# Altium schematic symbol library CV-R-BAP_V2.1.5.SCHLIB: 73 symbols
Pins are listed as number, name and electrical type; pins without a type are passive.

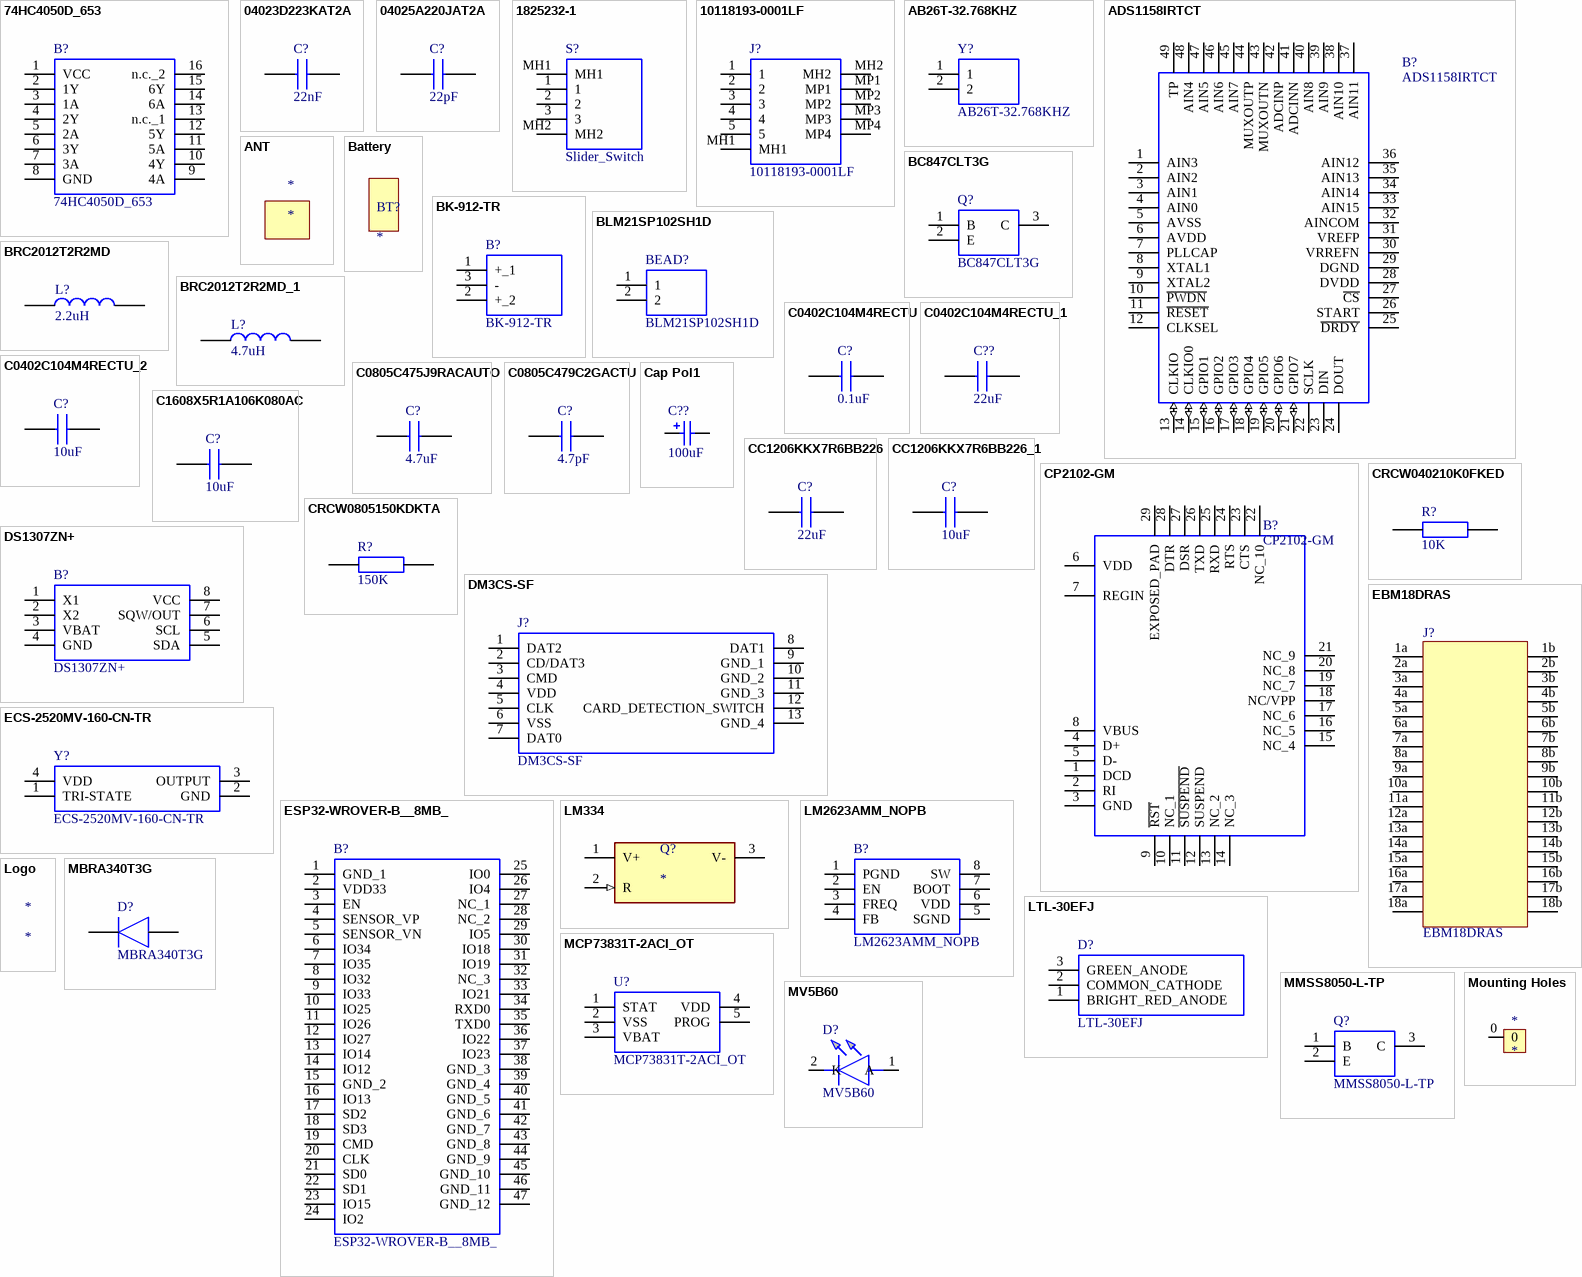
[diagram p0: symbols 74HC4050D_653 to MV5B60]

## 74HC4050D_653
designator B?
74HC4050 - Hex non-inverting HIGH-to-LOW level shifter@en-us; Manufacturer_Name: Nexperia; Manufacturer_Part_Number: 74HC4050D,653; Geometry.Height: 1.75mm; Arrow Part Number: 74HC4050D,653; Arrow Price/Stock: https://www.arrow.com/en/products/74hc4050d653/nexperia; Mouser Part Number: 771-74HC4050D-T; Mouser Price/Stock: https://www.mouser.co.uk/ProductDetail/Nexperia/74HC4050D653?qs=P62ublwmbi%2FIblpTHxAIPw%3D%3D; Datasheet Link: https://assets.nexperia.com/documents/data-sheet/74HC4050.pdf
footprint SOIC127P600X175-16N
pins: 1 VCC, 2 1Y, 3 1A, 4 2Y, 5 2A, 6 3Y, 7 3A, 8 GND, 9 4A, 10 4Y, 11 5A, 12 5Y, 13 n.c._1, 14 6A, 15 6Y, 16 n.c._2

## 04023D223KAT2A
designator C?, comment 22nF
Manufacturer_Name: AVX; Manufacturer_Part_Number: 04023D223KAT2A; Geometry.Height: 0.56mm; Arrow Part Number: 04023D223KAT2A; Arrow Price/Stock: https://www.arrow.com/en/products/04023d223kat2a/avx; Mouser Part Number: 581-04023D223KAT2A; Mouser Price/Stock: https://www.mouser.co.uk/ProductDetail/AVX/04023D223KAT2A?qs=ZwvTZoB9SO9ICL%2FCeGOSag%3D%3D; Datasheet Link: http://www.mouser.com/catalog/supplier/library/pdf/AVXSurfaceMountCeramic.pdf
footprint CAPC1005X56N
pins: 1, 2

## 04025A220JAT2A
designator C?, comment 22pF
Capacitor MLCC 0402 22pF 50V AVX 0402 Standard 22pF Ceramic Multilayer Capacitor, 50 V dc C0G Dielectric +/-5% SMD; Manufacturer_Part_Number: 04025A220JAT2A; Geometry.Height: 0.56mm; Manufacturer_Name: AVX; Arrow Part Number: 04025A220JAT2A; Arrow Price/Stock: https://www.arrow.com/en/products/04025a220jat2a/avx; Mouser Part Number: 581-04025A220J; Mouser Price/Stock: https://www.mouser.com/Search/Refine.aspx?Keyword=581-04025A220J; Datasheet Link: http://www.mouser.com/catalog/supplier/library/pdf/AVXSurfaceMountCeramic.pdf
footprint CAPC1005X56N
pins: 1, 2

## 1825232-1
designator S?, comment Slider_Switch
TE CONNECTIVITY - 1825232-1 - SLIDE SWITCH, SPDT, 0.2A, 30VDC, SOLDER; Geometry.Height: 3.7mm; Manufacturer_Name: TE Connectivity; Manufacturer_Part_Number: 1825232-1; Arrow Part Number: 1825232-1; Arrow Price/Stock: https://www.arrow.com/en/products/1825232-1/te-connectivity; Mouser Part Number: 655-1825232-1; Mouser Price/Stock: https://www.mouser.co.uk/ProductDetail/TE-Connectivity-PB/1825232-1?qs=kTKVN3NWb5FosGxaNC1%252BtA%3D%3D; Datasheet Link: https://componentsearchengine.com/Datasheets/1/1825232-1.pdf
footprint 18252321
pins: 1, 2, 3, MH1, MH2

## 10118193-0001LF
designator J?
USB Connectors 5P MICRO USB TYPE B RECEPTACLE W/ PEGS; Manufacturer_Name: Amphenol; Geometry.Height: 3.1mm; Manufacturer_Part_Number: 10118193-0001LF; Arrow Part Number: 10118193-0001LF; Arrow Price/Stock: https://www.arrow.com/en/products/10118193-0001lf/amphenol-fci; Mouser Part Number: 649-10118193-0001LF; Mouser Price/Stock: https://www.mouser.co.uk/ProductDetail/Amphenol-FCI/10118193-0001LF?qs=Ywefl8B65e63Nsqd%252B8HZaQ%3D%3D; Datasheet Link: https://componentsearchengine.com/Datasheets/1/10118193-0001LF.pdf
footprint 101181930001LF
pins: 1, 2, 3, 4, 5, MH1, MH2, MP1, MP2, MP3, MP4

## AB26T-32.768KHZ
designator Y?
Crystal 32.768kHz, +/-20ppm Cylindrical Can, Radial, 2.1 x 6.2mm; Manufacturer_Name: ABRACON; Manufacturer_Part_Number: AB26T-32.768KHZ; Arrow Part Number: AB26T-32.768KHZ; Arrow Price/Stock: https://www.arrow.com/en/products/ab26t-32.768khz/abracon; Mouser Part Number: 815-AB26T-32.768KHZ; Mouser Price/Stock: https://www.mouser.co.uk/ProductDetail/ABRACON/AB26T-32768KHZ?qs=m%252BUhWDcpCfZq%2FBFfwzExYQ%3D%3D; Datasheet Link: https://abracon.com/Resonators/AB26T.pdf
footprint AB26T
pins: 1, 2

## ADS1158IRTCT
designator B?
16-Bit, 125kSPS, 16-Ch Delta-Sigma ADC w/ Fast Channel Scan & Automatic Sequencer; Manufacturer_Name: Texas Instruments; Geometry.Height: 0.9mm; Manufacturer_Part_Number: ADS1158IRTCT; Arrow Part Number: ADS1158IRTCT; Arrow Price/Stock: https://www.arrow.com/en/products/ads1158irtct/texas-instruments; Mouser Part Number: 595-ADS1158IRTCT; Mouser Price/Stock: https://www.mouser.co.uk/ProductDetail/Texas-Instruments/ADS1158IRTCT?qs=Fn3VdHBzkcmocHRSn4DsYg%3D%3D; Datasheet Link: http://www.mouser.com/ds/2/405/ads1158-404657.pdf
footprint QFN50P700X700X90-49N-D
pins: 1 AIN3, 2 AIN2, 3 AIN1, 4 AIN0, 5 AVSS, 6 AVDD (power), 7 PLLCAP, 8 XTAL1, 9 XTAL2, 10 ~{PWDN}, 11 ~{RESET}, 12 CLKSEL, 13 CLKIO (io), 14 CLKIO0 (io), 15 GPIO1 (io), 16 GPIO2 (io), 17 GPIO3 (io), 18 GPIO4 (io), 19 GPIO5 (io), 20 GPIO6 (io), 21 GPIO7 (io), 22 SCLK, 23 DIN, 24 DOUT, 25 ~{DRDY}, 26 START, 27 ~{CS}, 28 DVDD (power), 29 DGND, 30 VRREFN, 31 VREFP, 32 AINCOM, 33 AIN15, 34 AIN14, 35 AIN13, 36 AIN12, 37 AIN11, 38 AIN10, 39 AIN9, 40 AIN8, 41 ADCINN, 42 ADCINP, 43 MUXOUTN, 44 MUXOUTP, 45 AIN7, 46 AIN6, 47 AIN5, 48 AIN4, 49 TP

## ANT
designator *

## Battery
designator BT?

## BC847CLT3G
designator Q?
Manufacturer_Name: ON Semiconductor; Geometry.Height: 1.11mm; Manufacturer_Part_Number: BC847CLT3G; Arrow Part Number: BC847CLT3G; Arrow Price/Stock: https://www.arrow.com/en/products/bc847clt3g/on-semiconductor; Mouser Part Number: 863-BC847CLT3G; Mouser Price/Stock: https://www.mouser.co.uk/ProductDetail/ON-Semiconductor/BC847CLT3G?qs=vNc2DXHODiIVMr372epecQ%3D%3D; Datasheet Link: http://www.onsemi.com/pub/Collateral/BC846ALT1-D.PDF
footprint SOT96P237X111-3N
pins: 1 B, 2 E, 3 C

## BK-912-TR
designator B?
BATTERY RETAINER COIN 20MM SMD; Manufacturer_Name: MPD (Memory Protection Devices); Geometry.Height: 4.32mm; Manufacturer_Part_Number: BK-912-TR; Arrow Part Number: BK-912-TR; Arrow Price/Stock: *; Mouser Part Number: *; Mouser Price/Stock: *; Datasheet Link: https://www.memoryprotectiondevices.com/datasheets/BK-912-datasheet.pdf
footprint BK912TR
pins: 1 +_1, 2 +_2, 3 -

## BLM21SP102SH1D
designator BEAD?
BLM21_H1D Series EMI Suppression Filter 1000+/-25% at 100MHz 1.6A @85; Manufacturer_Name: Murata Electronics; Geometry.Height: 1.05mm; Manufacturer_Part_Number: BLM21SP102SH1D; Arrow Part Number: BLM21SP102SH1D; Arrow Price/Stock: https://www.arrow.com/en/products/blm21sp102sh1d/murata-manufacturing; Mouser Part Number: 81-BLM21SP102SH1D; Mouser Price/Stock: https://www.mouser.co.uk/ProductDetail/Murata-Electronics/BLM21SP102SH1D?qs=17u8i%2FzlE88gxwLak368hw%3D%3D; Datasheet Link: https://www.murata.com/en-us/products/productdetail?partno=BLM21SP102SH1%23
footprint Model Name (Footprint not found)
footprint Bead_0805
pins: 1, 2

## BRC2012T2R2MD
designator L?, comment 2.2uH
BRC2012T2R2MD; Manufacturer_Name: TAIYO YUDEN; Geometry.Height: 1.4mm; Manufacturer_Part_Number: BRC2012T2R2MD; Arrow Part Number: BRC2012T2R2MD; Arrow Price/Stock: http://www.arrow.com/en/products/brc2012t2r2md/taiyo-yuden; Mouser Part Number: 963-BRC2012T2R2MD; Mouser Price/Stock: https://www.mouser.co.uk/ProductDetail/Taiyo-Yuden/BRC2012T2R2MD?qs=I6KAKw0tg2xahQxcAJDRXw%3D%3D; Datasheet Link: https://www.mouser.com/datasheet/2/396/wound07_e-1628381.pdf
footprint INDC2012X140N
pins: 1, 2

## BRC2012T2R2MD_1
designator L?, comment 4.7uH
BRC2012T2R2MD; Manufacturer_Name: TAIYO YUDEN; Geometry.Height: 1.4mm; Manufacturer_Part_Number: BRC2012T2R2MD; Arrow Part Number: BRC2012T2R2MD; Arrow Price/Stock: http://www.arrow.com/en/products/brc2012t2r2md/taiyo-yuden; Mouser Part Number: 963-BRC2012T2R2MD; Mouser Price/Stock: https://www.mouser.co.uk/ProductDetail/Taiyo-Yuden/BRC2012T2R2MD?qs=I6KAKw0tg2xahQxcAJDRXw%3D%3D; Datasheet Link: https://www.mouser.com/datasheet/2/396/wound07_e-1628381.pdf
footprint INDC2012X140N
pins: 1, 2

## C0402C104M4RECTU
designator C?, comment 0.1uF
Multilayer Ceramic Capacitors MLCC - SMD/SMT 16V 0.1uF X7R 0402 20%; Manufacturer_Name: Kemet; Manufacturer_Part_Number: C0402C104M4RECTU; Geometry.Height: 0.55mm; Arrow Part Number: C0402C104M4RECTU; Arrow Price/Stock: *; Mouser Part Number: 80-C0402C104M4RECTU; Mouser Price/Stock: https://www.mouser.com/Search/Refine.aspx?Keyword=80-C0402C104M4RECTU; Datasheet Link: https://content.kemet.com/datasheets/KEM_C1002_X7R_SMD.pdf
footprint CAPC1005X55N
pins: 1, 2

## C0402C104M4RECTU_1
designator C??, comment 22uF
Multilayer Ceramic Capacitors MLCC - SMD/SMT 25V 22uF X7R 0402 20%; Manufacturer_Name: Kemet; Manufacturer_Part_Number: C0402C104M4RECTU; Geometry.Height: 0.55mm; Arrow Part Number: C0402C104M4RECTU; Arrow Price/Stock: *; Mouser Part Number: 80-C0402C104M4RECTU; Mouser Price/Stock: https://www.mouser.com/Search/Refine.aspx?Keyword=80-C0402C104M4RECTU; Datasheet Link: https://content.kemet.com/datasheets/KEM_C1002_X7R_SMD.pdf
footprint CAPC1005X55N
pins: 1, 2

## C0402C104M4RECTU_2
designator C?, comment 10uF
Multilayer Ceramic Capacitors MLCC - SMD/SMT 16V 0.1uF X7R 0402 20%; Manufacturer_Name: Kemet; Manufacturer_Part_Number: C0402C104M4RECTU; Geometry.Height: 0.55mm; Arrow Part Number: C0402C104M4RECTU; Arrow Price/Stock: *; Mouser Part Number: 80-C0402C104M4RECTU; Mouser Price/Stock: https://www.mouser.com/Search/Refine.aspx?Keyword=80-C0402C104M4RECTU; Datasheet Link: https://content.kemet.com/datasheets/KEM_C1002_X7R_SMD.pdf
footprint CAPC1005X55N
pins: 1, 2

## C0805C475J9RACAUTO
designator C?, comment 4.7uF
KEMET 0805 (2012M) 4.7uF MLCC 6.3V dc +/-5% SMD C0805C475J9RACAUTO; Geometry.Height: 1.4mm; Manufacturer_Name: Kemet; Manufacturer_Part_Number: C0805C475J9RACAUTO; Arrow Part Number: C0805C475J9RACAUTO; Arrow Price/Stock: https://www.arrow.com/en/products/c0805c475j9racauto/kemet-corporation; Mouser Part Number: 80-C0805C475J9RAUTO; Mouser Price/Stock: https://www.mouser.com/Search/Refine.aspx?Keyword=80-C0805C475J9RAUTO; Datasheet Link: https://api.kemet.com/component-edge/download/datasheet/C0805C475J9RACAUTO.pdf
footprint CAPC2012X140N
pins: 1, 2

## C0805C479C2GACTU
designator C?, comment 4.7pF
Kemet 0805 C 4.7pF Ceramic Multilayer Capacitor, 200 V dc, +125C, C0G Dielectric, +/-0.25pF; Manufacturer_Part_Number: C0805C479C2GACTU; Geometry.Height: 0.88mm; Manufacturer_Name: Kemet; Arrow Part Number: C0805C479C2GACTU; Arrow Price/Stock: *; Mouser Part Number: 80-C0805C479C2G; Mouser Price/Stock: https://www.mouser.co.uk/ProductDetail/KEMET/C0805C479C2GACTU?qs=Kt%252B%2Fw7aCTnl%2FOadhisFOJw%3D%3D; Datasheet Link: https://search.kemet.com/component-edge/download/specsheet/C0805C479C2GACTU.pdf
footprint CAPC2012X88N
pins: 1, 2

## C1608X5R1A106K080AC
designator C?, comment 10uF
TDK - C1608X5R1A106K080AC - CAP, MLCC, X5R, 10UF, 10V, 0603; Geometry.Height: 0.8mm; Manufacturer_Name: TDK; Manufacturer_Part_Number: C1608X5R1A106K080AC; Arrow Part Number: C1608X5R1A106K080AC; Arrow Price/Stock: https://www.arrow.com/en/products/c1608x5r1a106k080ac/tdk; Mouser Part Number: 810-C1608X5R1A106K; Mouser Price/Stock: https://www.mouser.co.uk/ProductDetail/TDK/C1608X5R1A106K080AC?qs=NRhsANhppD%252B2Bx3rv7OLbA%3D%3D; Datasheet Link: https://product.tdk.com/info/en/catalog/datasheets/mlcc_commercial_midvoltage_en.pdf
footprint CAPC1608X80N
pins: 1, 2

## Cap Pol1
designator C??  value 100uF  (hidden comment: Cap Pol1)
Polarized Capacitor (Radial); Published: 8-Jun-2000; LatestRevisionDate: 17-Jul-2002; LatestRevisionNote: Re-released for DXP Platform.; PackageReference: RB7.6-15; Publisher: Altium Limited; PackageDescription: Polarized Capacitor (Radial); 2 Leads
footprint RB7.6-15 (Polarized Capacitor (Radial); 2 Leads)
simulation model CAP (Capacitor)
signal-integrity model Cap Pol
pins: 1, 2
1 alternate drawing of the same symbol

## CC1206KKX7R6BB226
designator C?, comment 22uF
Multilayer Ceramic Capacitors MLCC - SMD/SMT 22uF 10% 10V; Manufacturer_Name: YAGEO (PHYCOMP); Manufacturer_Part_Number: CC1206KKX7R6BB226; Geometry.Height: 1.8mm; Arrow Part Number: CC1206KKX7R6BB226; Arrow Price/Stock: *; Mouser Part Number: 603-CC206KKX7R6BB226; Mouser Price/Stock: https://www.mouser.com/Search/Refine.aspx?Keyword=603-CC206KKX7R6BB226; Datasheet Link: https://www.mouser.com/datasheet/2/447/UPY-GPHC_X7R_6.3V-to-50V_18-1154002.pdf
footprint CAPC3216X180N
pins: 1, 2

## CC1206KKX7R6BB226_1
designator C?, comment 10uF
Multilayer Ceramic Capacitors MLCC - SMD/SMT 22uF 10% 10V; Manufacturer_Name: YAGEO (PHYCOMP); Manufacturer_Part_Number: CC1206KKX7R6BB226; Geometry.Height: 1.8mm; Arrow Part Number: CC1206KKX7R6BB226; Arrow Price/Stock: *; Mouser Part Number: 603-CC206KKX7R6BB226; Mouser Price/Stock: https://www.mouser.com/Search/Refine.aspx?Keyword=603-CC206KKX7R6BB226; Datasheet Link: https://www.mouser.com/datasheet/2/447/UPY-GPHC_X7R_6.3V-to-50V_18-1154002.pdf
footprint CAPC3216X180N
pins: 1, 2

## CP2102-GM
designator B?
CP2102-GM, USB Controller 12Mbit/s USB 2.0, 3.3 V, 28-Pin, QFN; Manufacturer_Name: Silicon Labs; Geometry.Height: 1mm; Manufacturer_Part_Number: CP2102-GM; Arrow Part Number: CP2102-GM; Arrow Price/Stock: https://www.arrow.com/en/products/cp2102-gm/silicon-labs; Mouser Part Number: 634-CP2102-GM; Mouser Price/Stock: https://www.mouser.co.uk/ProductDetail/Silicon-Labs/CP2102-GM?qs=yHCtFi5ROqJvCcyR88R4Pg%3D%3D; Datasheet Link: http://docs-emea.rs-online.com/webdocs/065a/0900766b8065a805.pdf
footprint QFN50P500X500X100-29N-D
pins: 1 DCD, 2 RI, 3 GND, 4 D+, 5 D-, 6 VDD (power), 7 REGIN, 8 VBUS, 9 ~{RST}, 10 NC_1, 11 ~{SUSPEND}, 12 SUSPEND, 13 NC_2, 14 NC_3, 15 NC_4, 16 NC_5, 17 NC_6, 18 NC/VPP, 19 NC_7, 20 NC_8, 21 NC_9, 22 NC_10, 23 CTS, 24 RTS, 25 RXD, 26 TXD, 27 DSR, 28 DTR, 29 EXPOSED_PAD

## CRCW040210K0FKED
designator R?, comment 10K
CRCW0402 Resistor T/R 0.063W,1%,10K Vishay CRCW Series Thick Film Surface Mount Resistor 0402 Case 10k +/-1% 0.063W +/-100ppm/C; Manufacturer_Part_Number: CRCW040210K0FKED; Geometry.Height: 0.4mm; Manufacturer_Name: Vishay; Arrow Part Number: CRCW040210K0FKED; Arrow Price/Stock: https://www.arrow.com/en/products/crcw040210k0fked/vishay; Mouser Part Number: 71-CRCW0402-10K-E3; Mouser Price/Stock: https://www.mouser.co.uk/ProductDetail/Vishay-Dale/CRCW040210K0FKED?qs=rlE3Te1NifyN3e8vvxacSw%3D%3D; Datasheet Link: http://www.vishay.com/docs/20035/dcrcwe3.pdf
footprint RESC1005X40N
pins: 1, 2

## CRCW0805150KDKTA
designator R?, comment 150K
Thick Film Resistors - SMD 1/8watt 150Kohms .5%; Manufacturer_Name: Vishay; Manufacturer_Part_Number: CRCW0805150KDKTA; Geometry.Height: 0.5mm; Arrow Part Number: CRCW0805150KDKTA; Arrow Price/Stock: *; Mouser Part Number: 71-CRCW08051503DT; Mouser Price/Stock: *; Datasheet Link: http://www.vishay.com/docs/20035/dcrcwe3.pdf
footprint RESC2012X50N
pins: 1, 2

## DM3CS-SF
designator J?
MicroSD card connector, push-pull type MicroSD card connector, push-pull type; Manufacturer_Name: Hirose; Manufacturer_Part_Number: DM3CS-SF; Arrow Part Number: DM3CS-SF; Arrow Price/Stock: https://www.arrow.com/en/products/dm3cs-sf/hirose-electric; Mouser Part Number: 798-DM3CSSF; Mouser Price/Stock: https://www.mouser.co.uk/ProductDetail/Hirose-Connector/DM3CS-SF?qs=tTj%252BmQ3KZwbB9K5zh89Rcw%3D%3D; Datasheet Link: http://docs-emea.rs-online.com/webdocs/118f/0900766b8118f8bb.pdf
footprint DM3CS-SF
pins: 1 DAT2, 2 CD/DAT3, 3 CMD, 4 VDD, 5 CLK, 6 VSS, 7 DAT0, 8 DAT1, 9 GND_1, 10 GND_2, 11 GND_3, 12 CARD_DETECTION_SWITCH, 13 GND_4

## DS1307ZN+
designator B?
DS1307ZN+, Real Time Clock, Calendar, Clock, 56B RAM, I2C, 8-Pin SOIC; Manufacturer_Name: Maxim Integrated; Geometry.Height: 1.75mm; Manufacturer_Part_Number: DS1307ZN+; Arrow Part Number: DS1307ZN+; Arrow Price/Stock: *; Mouser Part Number: 700-DS1307ZN; Mouser Price/Stock: https://www.mouser.co.uk/ProductDetail/Maxim-Integrated/DS1307ZN%2b?qs=0Y9aZN%252BMVCXLWsJnSCEZfw%3D%3D; Datasheet Link: https://datasheets.maximintegrated.com/en/ds/DS1307.pdf
footprint SOIC127P600X175-8N
pins: 1 X1, 2 X2, 3 VBAT, 4 GND, 5 SDA, 6 SCL, 7 SQW/OUT, 8 VCC (power)

## EBM18DRAS
designator J?
CONN EDGE DUAL FMALE 18POS 0.051mm dia
footprint EBM18DRAS (CONN EDGE DUAL FMALE 18POS 0.051mm dia)
pins: 1a, 1b, 2a, 2b, 3a, 3b, 4a, 4b, 5a 8, 5b, 6a, 6b, 7a, 7b, 8a 14, 8b, 9a, 9b, 10a, 10b, 11a 20, 11b, 12a, 12b, 13a, 13b, 14a, 14b, 15a, 15b, 16a, 16b, 17a, 17b, 18a, 18b

## ECS-2520MV-160-CN-TR
designator Y?
Standard Clock Oscillators 16MHz 1.6-3.6 V 25ppm -40C +85C; Manufacturer_Name: ECS; Manufacturer_Part_Number: ECS-2520MV-160-CN-TR; Arrow Part Number: ECS-2520MV-160-CN-TR; Arrow Price/Stock: *; Mouser Part Number: 520-2520MV-160-CNT; Mouser Price/Stock: https://www.mouser.co.uk/ProductDetail/ECS/ECS-2520MV-160-CN-TR?qs=byeeYqUIh0MIhToPrW09tg%3D%3D; Datasheet Link: https://www.ecsxtal.com/store/pdf/ECS-2520MV.pdf
footprint ECS2520MV250BNTR
pins: 1 TRI-STATE, 2 GND, 3 OUTPUT, 4 VDD

## ESP32-WROVER-B__8MB_
designator B?
WiFi Modules (802.11) SMD Module M213DH6464PH3Q0, ESP32-D0WD, 64Mbits PSRAM, 8MB SPI flash, PCB Antenna; Manufacturer_Name: Espressif; Manufacturer_Part_Number: ESP32-WROVER-B (8MB); Geometry.Height: 3.4mm; Arrow Part Number: ESP32-WROVER-B (8MB); Arrow Price/Stock: *; Mouser Part Number: 356-ESP32-WRO-B(8MB); Mouser Price/Stock: *; Datasheet Link: https://eu.mouser.com/datasheet/2/891/esp32-wrover-b_datasheet_en-1384674.pdf
footprint ESP32WROVERB8MB
pins: 1 GND_1, 2 VDD33, 3 EN, 4 SENSOR_VP, 5 SENSOR_VN, 6 IO34, 7 IO35, 8 IO32, 9 IO33, 10 IO25, 11 IO26, 12 IO27, 13 IO14, 14 IO12, 15 GND_2, 16 IO13, 17 SD2, 18 SD3, 19 CMD, 20 CLK, 21 SD0, 22 SD1, 23 IO15, 24 IO2, 25 IO0, 26 IO4, 27 NC_1, 28 NC_2, 29 IO5, 30 IO18, 31 IO19, 32 NC_3, 33 IO21, 34 RXD0, 35 TXD0, 36 IO22, 37 IO23, 38 GND_3, 39 GND_4, 40 GND_5, 41 GND_6, 42 GND_7, 43 GND_8, 44 GND_9, 45 GND_10, 46 GND_11, 47 GND_12

## LM334
designator Q?
Part Number: LM334; Footprint Doc: TO-92
footprint LM334_TO-92
pins: 1 V+ (power), 2 R (in), 3 V-

## LM2623AMM_NOPB
designator B?
General Purpose, Gated Oscillator Based, DC/DC Boost Converter; Manufacturer_Name: Texas Instruments; Manufacturer_Part_Number: LM2623AMM/NOPB; Geometry.Height: 1.1mm; Arrow Part Number: LM2623AMM/NOPB; Arrow Price/Stock: https://www.arrow.com/en/products/lm2623ammnopb/texas-instruments; Mouser Part Number: 926-LM2623AMM/NOPB; Mouser Price/Stock: https://www.mouser.co.uk/ProductDetail/Texas-Instruments/LM2623AMM-NOPB?qs=X1J7HmVL2ZHUXFRmS%252BHhFg%3D%3D; Datasheet Link: http://www.ti.com/lit/ds/symlink/lm2623.pdf
footprint SOP65P490X110-8N
pins: 1 PGND, 2 EN, 3 FREQ, 4 FB, 5 SGND, 6 VDD, 7 BOOT, 8 SW

## Logo
designator *
footprint Logo

## LTL-30EFJ
designator D?
Standard LEDs - Through Hole Red/Green Diffused; Manufacturer_Name: Lite-On; Manufacturer_Part_Number: LTL-30EFJ; Arrow Part Number: LTL-30EFJ; Arrow Price/Stock: https://www.arrow.com/en/products/ltl-30efj/lite-on-technology; Mouser Part Number: 859-LTL-30EFJ; Mouser Price/Stock: https://www.mouser.com/Search/Refine.aspx?Keyword=859-LTL-30EFJ; Datasheet Link: https://componentsearchengine.com/Datasheets/1/LTL-30EFJ.pdf
footprint LTL-30EHJ
pins: 1 BRIGHT_RED_ANODE, 2 COMMON_CATHODE, 3 GREEN_ANODE

## MBRA340T3G
designator D?
MBRA340T3G, Schottky Diode,  3A max, 40V, 2-Pin, SMA; Manufacturer_Name: ON Semiconductor; Geometry.Height: 2.2mm; Manufacturer_Part_Number: MBRA340T3G; Arrow Part Number: MBRA340T3G; Arrow Price/Stock: https://www.arrow.com/en/products/mbra340t3g/on-semiconductor; Mouser Part Number: 863-MBRA340T3G; Mouser Price/Stock: https://www.mouser.co.uk/ProductDetail/ON-Semiconductor/MBRA340T3G?qs=3JMERSakebq0pjb145uRLw%3D%3D; Datasheet Link: http://www.onsemi.com/pub/Collateral/MBRA340T3-D.PDF
footprint DIOM5226X220N
pins: 1 K, 2 A

## MCP73831T-2ACI_OT
designator U?
Li-Ion Charge Controller 4.2V SOT23-5; Manufacturer_Name: Microchip; Manufacturer_Part_Number: MCP73831T-2ACI/OT; Geometry.Height: 1.45mm; Arrow Part Number: MCP73831T-2ACI/OT; Arrow Price/Stock: https://www.arrow.com/en/products/mcp73831t-2aciot/microchip-technology; Mouser Part Number: 579-MCP73831T-2ACIOT; Mouser Price/Stock: https://www.mouser.co.uk/ProductDetail/Microchip-Technology/MCP73831T-2ACI-OT?qs=yUQqVecv4qvbBQBGbHx0Mw%3D%3D; Datasheet Link: http://ww1.microchip.com/downloads/en/DeviceDoc/20001984g.pdf
footprint SOT95P270X145-5N
pins: 1 STAT, 2 VSS, 3 VBAT, 4 VDD, 5 PROG

## MMSS8050-L-TP
designator Q?
Bipolar Transistors - BJT 625mW, 25V, 1500mA; Manufacturer_Name: Micro Commercial Components (MCC); Geometry.Height: 1.12mm; Manufacturer_Part_Number: MMSS8050-L-TP; Arrow Part Number: MMSS8050-L-TP; Arrow Price/Stock: https://www.arrow.com/en/products/mmss8050-l-tp/micro-commercial-components; Mouser Part Number: 833-MMSS8050-L-TP; Mouser Price/Stock: https://www.mouser.co.uk/ProductDetail/Micro-Commercial-Components-MCC/MMSS8050-L-TP?qs=FaVZESsvgnebflbaqJWJVQ%3D%3D; Datasheet Link: https://componentsearchengine.com/Datasheets/1/MMSS8050-L-TP.pdf
footprint SOT96P237X112-3N
pins: 1 B, 2 E, 3 C

## Mounting Holes
designator *
footprint PCBComponent_1
pins: 0

## MV5B60
designator D?
Standard LEDs - Through Hole T-100 BLUE CLEAR; Manufacturer_Name: Everlight; Manufacturer_Part_Number: MV5B60; Arrow Part Number: MV5B60; Arrow Price/Stock: *; Mouser Part Number: 638-MV5B60; Mouser Price/Stock: https://www.mouser.com/Search/Refine.aspx?Keyword=638-MV5B60; Datasheet Link: https://componentsearchengine.com/Datasheets/1/MV5B60.pdf
footprint MV5B60
pins: 1 A, 2 K

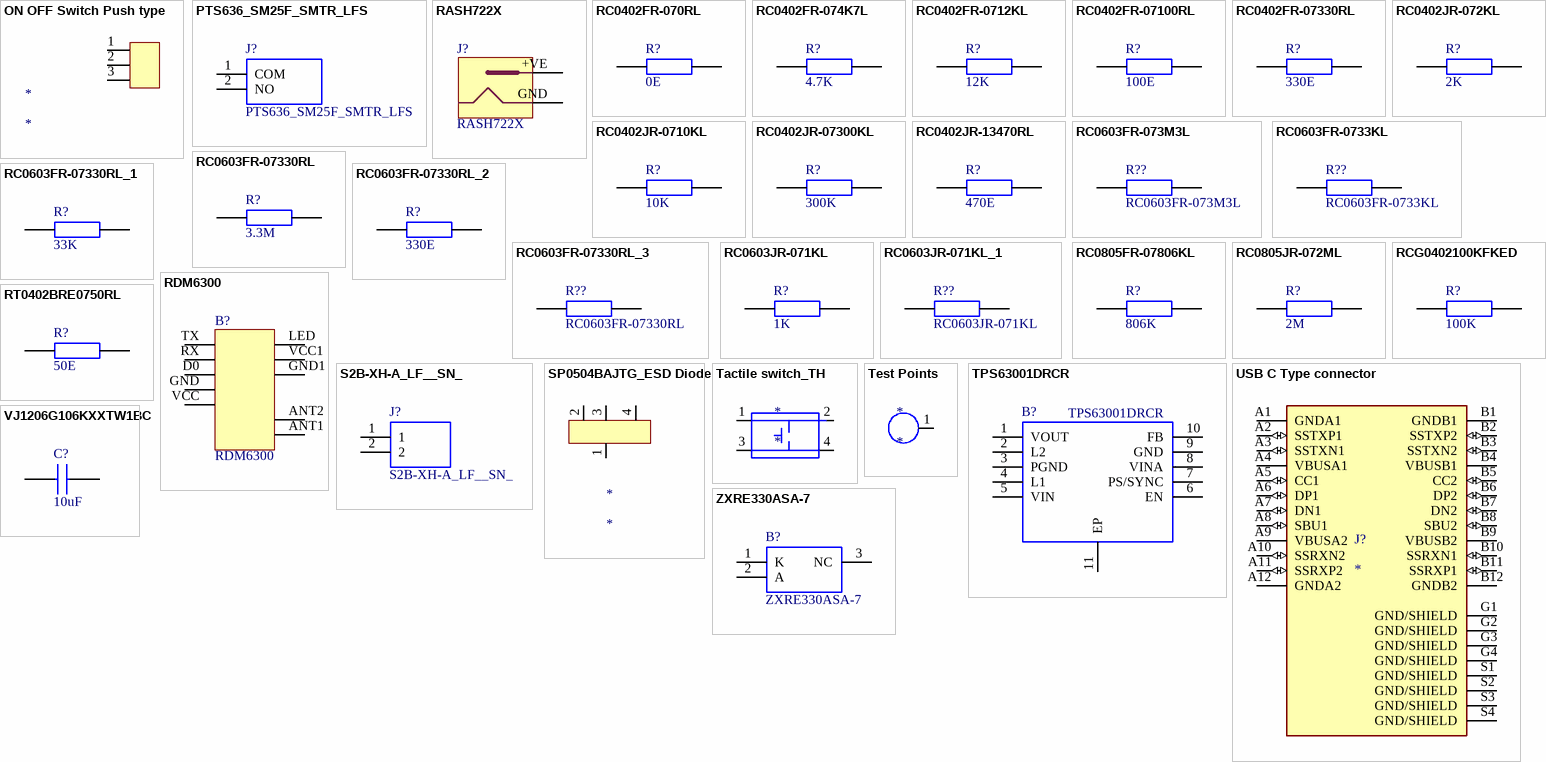
[diagram p1: symbols ON OFF Switch Push type to ZXRE330ASA-7]

## ON OFF Switch Push type
designator *
pins: 1, 2, 3

## PTS636_SM25F_SMTR_LFS
designator J?
Tactile Switches Tact 50mA 12VDC, 6.0x3.5, 2.5mm H, 180gf, F leads, No ground pin, White Actuator; Manufacturer_Name: C & K COMPONENTS; Manufacturer_Part_Number: PTS636 SM25F SMTR LFS; Geometry.Height: 2.7mm; Arrow Part Number: PTS636 SM25F SMTR LFS; Arrow Price/Stock: https://www.arrow.com/en/products/pts636-sm25f-smtr-lfs/ck; Mouser Part Number: 611-PTS636SM25FSMTRL; Mouser Price/Stock: https://www.mouser.co.uk/ProductDetail/CK/PTS636-SM25F-SMTR-LFS?qs=vLWxofP3U2wcBTQSwfMFOw%3D%3D; Datasheet Link: https://ms.componentsearchengine.com/Datasheets/1/PTS636 SM25F SMTR LFS.pdf
footprint PTS636SM25FSMTRLFS
pins: 1 COM, 2 NO

## RASH722X
designator J?
DC Power Connectors HYBRID RA PWR JACK
footprint RASH722X (DC Power Connectors HYBRID RA PWR JACK)
pins: +VE, GND

## RC0402FR-070RL
designator R?, comment 0E
Thick Film Resistors - SMD 0.0ohm 1%; Manufacturer_Name: YAGEO (PHYCOMP); Manufacturer_Part_Number: RC0402FR-070RL; Geometry.Height: 0.4mm; Arrow Part Number: RC0402FR-070RL; Arrow Price/Stock: https://www.arrow.com/en/products/rc0402fr-070rl/yageo; Mouser Part Number: 603-RC0402FR-070RL; Mouser Price/Stock: https://www.mouser.co.uk/ProductDetail/Yageo/RC0402FR-070RL?qs=sxZXDnvRBEhfSy4CZGX2ww%3D%3D; Datasheet Link: http://www.yageo.com/documents/recent/PYu-RC0402_51_RoHS_L_6_r.pdf
footprint RESC1005X40N
pins: 1, 2

## RC0402FR-074K7L
designator R?, comment 4.7K
YAGEO (PHYCOMP) - RC0402FR-074K7L - RES, THICK FILM, 4K7, 1%, 0.063W, 0402; Geometry.Height: 0.4mm; Manufacturer_Name: YAGEO (PHYCOMP); Manufacturer_Part_Number: RC0402FR-074K7L; Arrow Part Number: RC0402FR-074K7L; Arrow Price/Stock: https://www.arrow.com/en/products/rc0402fr-074k7l/yageo; Mouser Part Number: 603-RC0402FR-074K7L; Mouser Price/Stock: https://www.mouser.co.uk/ProductDetail/Yageo/RC0402FR-074K7L?qs=V1yeUXFNrkn%2FmCXC8N8TTA%3D%3D; Datasheet Link: http://www.yageo.com/documents/recent/PYu-RC0402_51_RoHS_L_6_r.pdf
footprint RESC1005X40N
pins: 1, 2

## RC0402FR-0712KL
designator R?, comment 12K
RESISTOR, 0402 12K Ohms +/-1% 1/16 W; Manufacturer_Name: YAGEO (PHYCOMP); Manufacturer_Part_Number: RC0402FR-0712KL; Geometry.Height: 0.4mm; Arrow Part Number: RC0402FR-0712KL; Arrow Price/Stock: *; Mouser Part Number: 603-RC0402FR-0712KL; Mouser Price/Stock: https://www.mouser.com/Search/Refine.aspx?Keyword=603-RC0402FR-0712KL; Datasheet Link: http://www.yageo.com/documents/recent/PYu-RC0402_51_RoHS_L_6_r.pdf
footprint RESC1005X40N
pins: 1, 2

## RC0402FR-07100RL
designator R?, comment 100E
YAGEO (PHYCOMP) - RC0402FR-07100RL - RES, THICK FILM, 100R, 1%, 0.0625W, 0402; Geometry.Height: 0.4mm; Manufacturer_Name: YAGEO (PHYCOMP); Manufacturer_Part_Number: RC0402FR-07100RL; Arrow Part Number: RC0402FR-07100RL; Arrow Price/Stock: https://www.arrow.com/en/products/rc0402fr-07100rl/yageo; Mouser Part Number: 603-RC0402FR-07100RL; Mouser Price/Stock: https://www.mouser.co.uk/ProductDetail/Yageo/RC0402FR-07100RL?qs=V1yeUXFNrknwaJOOZ4yDtg%3D%3D; Datasheet Link: http://www.yageo.com/documents/recent/PYu-RC0402_51_RoHS_L_6_r.pdf
footprint RESC1005X40N
pins: 1, 2

## RC0402FR-07330RL
designator R?, comment 330E
YAGEO (PHYCOMP) - RC0402FR-07330RL - RES, THICK FILM, 330R, 1%, 0.063W, 0402; Geometry.Height: 0.4mm; Manufacturer_Name: YAGEO (PHYCOMP); Manufacturer_Part_Number: RC0402FR-07330RL; Arrow Part Number: RC0402FR-07330RL; Arrow Price/Stock: https://www.arrow.com/en/products/rc0402fr-07330rl/yageo; Mouser Part Number: 603-RC0402FR-07330RL; Mouser Price/Stock: https://www.mouser.com/Search/Refine.aspx?Keyword=603-RC0402FR-07330RL; Datasheet Link: http://www.yageo.com/documents/recent/PYu-RC0402_51_RoHS_L_6_r.pdf
footprint RESC1005X40N
pins: 1, 2

## RC0402JR-072KL
designator R?, comment 2K
RESISTOR, 0402 2K Ohms +/-5% 1/16 W; Manufacturer_Name: YAGEO (PHYCOMP); Manufacturer_Part_Number: RC0402JR-072KL; Geometry.Height: 0.4mm; Arrow Part Number: RC0402JR-072KL; Arrow Price/Stock: https://www.arrow.com/en/products/rc0402jr-072kl/yageo; Mouser Part Number: 603-RC0402JR-072KL; Mouser Price/Stock: https://www.mouser.com/Search/Refine.aspx?Keyword=603-RC0402JR-072KL; Datasheet Link: http://www.yageo.com/documents/recent/PYu-RC0402_51_RoHS_L_6_r.pdf
footprint RESC1005X40N
pins: 1, 2

## RC0402JR-0710KL
designator R?, comment 10K
YAGEO (PHYCOMP) - RC0402JR-0710KL - RES, THICK FILM, 10K, 5%, 0.0625W, 0402; Geometry.Height: 0.4mm; Manufacturer_Name: YAGEO (PHYCOMP); Manufacturer_Part_Number: RC0402JR-0710KL; Arrow Part Number: RC0402JR-0710KL; Arrow Price/Stock: *; Mouser Part Number: 603-RC0402JR-0710KL; Mouser Price/Stock: https://www.mouser.co.uk/ProductDetail/Yageo/RC0402JR-0710KL?qs=V1yeUXFNrkk4BhFptVo0Rw%3D%3D; Datasheet Link: http://www.yageo.com/documents/recent/PYu-RC0402_51_RoHS_L_6_r.pdf
footprint RESC1005X40N
pins: 1, 2

## RC0402JR-07300KL
designator R?, comment 300K
Thick Film Resistors - SMD 300K Ohm 5% 1/16W 50 Volts; Manufacturer_Name: YAGEO (PHYCOMP); Manufacturer_Part_Number: RC0402JR-07300KL; Geometry.Height: 0.4mm; Arrow Part Number: RC0402JR-07300KL; Arrow Price/Stock: *; Mouser Part Number: 603-RC0402JR-07300KL; Mouser Price/Stock: https://www.mouser.com/Search/Refine.aspx?Keyword=603-RC0402JR-07300KL; Datasheet Link: http://www.yageo.com/documents/recent/PYu-RC0402_51_RoHS_L_6_r.pdf
footprint RESC1005X40N
pins: 1, 2

## RC0402JR-13470RL
designator R?, comment 470E
Thick Film Resistors - SMD 470 ohm 5% 50V General Purpose; Manufacturer_Name: YAGEO (PHYCOMP); Manufacturer_Part_Number: RC0402JR-13470RL; Geometry.Height: 0.4mm; Arrow Part Number: RC0402JR-13470RL; Arrow Price/Stock: https://www.arrow.com/en/products/rc0402jr-13470rl/yageo; Mouser Part Number: 603-RC0402JR-13470RL; Mouser Price/Stock: https://www.mouser.co.uk/ProductDetail/Yageo/RC0402JR-13470RL?qs=fPU49sp6fCK89krzeMh7Zw%3D%3D; Datasheet Link: http://www.yageo.com/documents/recent/PYu-RC0402_51_RoHS_L_6_r.pdf
footprint RESC1005X40N
pins: 1, 2

## RC0603FR-073M3L
designator R??
RC0603 smt chip resistor,3M3 1% 0.1W Yageo RC Series Thick Film Surface Mount Resistor 0603 Case 3.3M +/-1% 0.1W +/-100ppm/C; Manufacturer_Name: YAGEO (PHYCOMP); Geometry.Height: 0.55mm; Manufacturer_Part_Number: RC0603FR-073M3L; Arrow Part Number: RC0603FR-073M3L; Arrow Price/Stock: *; Mouser Part Number: 603-RC0603FR-073M3L; Mouser Price/Stock: https://www.mouser.com/Search/Refine.aspx?Keyword=603-RC0603FR-073M3L; Datasheet Link: http://www.yageo.com/documents/recent/PYu-RC0603_51_RoHS_L_v5.pdf
footprint RESC1608X55N
pins: 1, 2

## RC0603FR-0733KL
designator R??
YAGEO (PHYCOMP) - RC0603FR-0733KL - RES, THICK FILM, 33K, 1%, 0.1W, 0603; Geometry.Height: 0.55mm; Manufacturer_Name: YAGEO (PHYCOMP); Manufacturer_Part_Number: RC0603FR-0733KL; Arrow Part Number: RC0603FR-0733KL; Arrow Price/Stock: *; Mouser Part Number: 603-RC0603FR-0733KL; Mouser Price/Stock: https://www.mouser.co.uk/ProductDetail/Yageo/RC0603FR-0733KL?qs=diQw95jMAeNLVoelhsKx3w%3D%3D; Datasheet Link: http://www.yageo.com/documents/recent/PYu-RC0603_51_RoHS_L_v5.pdf
footprint RESC1608X55N
pins: 1, 2

## RC0603FR-07330RL
designator R?, comment 3.3M
YAGEO (PHYCOMP) - RC0603FR-07330RL - RES, THICK FILM, 330R, 1%, 0.1W, 0603; Geometry.Height: 0.55mm; Manufacturer_Name: YAGEO (PHYCOMP); Manufacturer_Part_Number: RC0603FR-07330RL; Arrow Part Number: RC0603FR-07330RL; Arrow Price/Stock: https://www.arrow.com/en/products/rc0603fr-07330rl/yageo; Mouser Part Number: 603-RC0603FR-07330RL; Mouser Price/Stock: https://www.mouser.co.uk/ProductDetail/Yageo/RC0603FR-07330RL?qs=diQw95jMAeN1335dAOzMfg%3D%3D; Datasheet Link: http://www.yageo.com/documents/recent/PYu-RC0603_51_RoHS_L_v5.pdf
footprint RESC1608X55N
pins: 1, 2

## RC0603FR-07330RL_1
designator R?, comment 33K
YAGEO (PHYCOMP) - RC0603FR-07330RL - RES, THICK FILM, 330R, 1%, 0.1W, 0603; Geometry.Height: 0.55mm; Manufacturer_Name: YAGEO (PHYCOMP); Manufacturer_Part_Number: RC0603FR-07330RL; Arrow Part Number: RC0603FR-07330RL; Arrow Price/Stock: https://www.arrow.com/en/products/rc0603fr-07330rl/yageo; Mouser Part Number: 603-RC0603FR-07330RL; Mouser Price/Stock: https://www.mouser.co.uk/ProductDetail/Yageo/RC0603FR-07330RL?qs=diQw95jMAeN1335dAOzMfg%3D%3D; Datasheet Link: http://www.yageo.com/documents/recent/PYu-RC0603_51_RoHS_L_v5.pdf
footprint RESC1608X55N
pins: 1, 2

## RC0603FR-07330RL_2
designator R?, comment 330E
YAGEO (PHYCOMP) - RC0603FR-07330RL - RES, THICK FILM, 330R, 1%, 0.1W, 0603; Geometry.Height: 0.55mm; Manufacturer_Name: YAGEO (PHYCOMP); Manufacturer_Part_Number: RC0603FR-07330RL; Arrow Part Number: RC0603FR-07330RL; Arrow Price/Stock: https://www.arrow.com/en/products/rc0603fr-07330rl/yageo; Mouser Part Number: 603-RC0603FR-07330RL; Mouser Price/Stock: https://www.mouser.co.uk/ProductDetail/Yageo/RC0603FR-07330RL?qs=diQw95jMAeN1335dAOzMfg%3D%3D; Datasheet Link: http://www.yageo.com/documents/recent/PYu-RC0603_51_RoHS_L_v5.pdf
footprint RESC1608X55N
pins: 1, 2

## RC0603FR-07330RL_3
designator R??, comment RC0603FR-07330RL
YAGEO (PHYCOMP) - RC0603FR-07330RL - RES, THICK FILM, 330R, 1%, 0.1W, 0603; Geometry.Height: 0.55mm; Manufacturer_Name: YAGEO (PHYCOMP); Manufacturer_Part_Number: RC0603FR-07330RL; Arrow Part Number: RC0603FR-07330RL; Arrow Price/Stock: https://www.arrow.com/en/products/rc0603fr-07330rl/yageo; Mouser Part Number: 603-RC0603FR-07330RL; Mouser Price/Stock: https://www.mouser.co.uk/ProductDetail/Yageo/RC0603FR-07330RL?qs=diQw95jMAeN1335dAOzMfg%3D%3D; Datasheet Link: http://www.yageo.com/documents/recent/PYu-RC0603_51_RoHS_L_v5.pdf
footprint RESC1608X55N
pins: 1, 2

## RC0603JR-071KL
designator R?, comment 1K
YAGEO (PHYCOMP) - RC0603JR-071KL - RES, THICK FILM, 1K, 5%, 0.1W, 0603; Geometry.Height: 0.55mm; Manufacturer_Name: YAGEO (PHYCOMP); Manufacturer_Part_Number: RC0603JR-071KL; Arrow Part Number: RC0603JR-071KL; Arrow Price/Stock: https://www.arrow.com/en/products/rc0603jr-071kl/yageo; Mouser Part Number: 603-RC0603JR-071KL; Mouser Price/Stock: https://www.mouser.co.uk/ProductDetail/Yageo/RC0603JR-071KL?qs=%2F9ZTgpVJnN7bctK4R%2FDEoA%3D%3D; Datasheet Link: http://www.yageo.com/documents/recent/PYu-RC0603_51_RoHS_L_v5.pdf
footprint RESC1608X55N
pins: 1, 2

## RC0603JR-071KL_1
designator R??, comment RC0603JR-071KL
YAGEO (PHYCOMP) - RC0603JR-071KL - RES, THICK FILM, 1K, 5%, 0.1W, 0603; Geometry.Height: 0.55mm; Manufacturer_Name: YAGEO (PHYCOMP); Manufacturer_Part_Number: RC0603JR-071KL; Arrow Part Number: RC0603JR-071KL; Arrow Price/Stock: https://www.arrow.com/en/products/rc0603jr-071kl/yageo; Mouser Part Number: 603-RC0603JR-071KL; Mouser Price/Stock: https://www.mouser.co.uk/ProductDetail/Yageo/RC0603JR-071KL?qs=%2F9ZTgpVJnN7bctK4R%2FDEoA%3D%3D; Datasheet Link: http://www.yageo.com/documents/recent/PYu-RC0603_51_RoHS_L_v5.pdf
footprint RESC1608X55N
pins: 1, 2

## RC0805FR-07806KL
designator R?, comment 806K
Thick Film Resistors - SMD 806K OHM 1%; Manufacturer_Name: YAGEO (PHYCOMP); Manufacturer_Part_Number: RC0805FR-07806KL; Geometry.Height: 0.6mm; Arrow Part Number: RC0805FR-07806KL; Arrow Price/Stock: https://www.arrow.com/en/products/rc0805fr-07806kl/yageo; Mouser Part Number: 603-RC0805FR-07806KL; Mouser Price/Stock: https://www.mouser.com/Search/Refine.aspx?Keyword=603-RC0805FR-07806KL; Datasheet Link: http://www.yageo.com/documents/recent/PYu-RC_Group_51_RoHS_L_10.pdf
footprint RESC2012X60N
pins: 1, 2

## RC0805JR-072ML
designator R?, comment 2M
Thick Film Resistors - SMD 2M OHM 5%; Manufacturer_Name: YAGEO (PHYCOMP); Manufacturer_Part_Number: RC0805JR-072ML; Geometry.Height: 0.6mm; Arrow Part Number: RC0805JR-072ML; Arrow Price/Stock: https://www.arrow.com/en/products/rc0805jr-072ml/yageo; Mouser Part Number: 603-RC0805JR-072ML; Mouser Price/Stock: https://www.mouser.com/Search/Refine.aspx?Keyword=603-RC0805JR-072ML; Datasheet Link: http://www.yageo.com/documents/recent/PYu-RC_Group_51_RoHS_L_10.pdf
footprint RESC2012X60N
pins: 1, 2

## RCG0402100KFKED
designator R?, comment 100K
Thick Film Resistors - SMD .063watt 100kohms 1% 0402 100ppm; Manufacturer_Name: Vishay; Manufacturer_Part_Number: RCG0402100KFKED; Geometry.Height: 0.4mm; Arrow Part Number: RCG0402100KFKED; Arrow Price/Stock: *; Mouser Part Number: 71-RCG0402100KFKED; Mouser Price/Stock: https://www.mouser.com/Search/Refine.aspx?Keyword=71-RCG0402100KFKED; Datasheet Link: http://www.vishay.com/docs/20037/rcae3.pdf
footprint RESC1005X40N
pins: 1, 2

## RDM6300
designator B?
RFID READER R/W 125KHZ MODULE
footprint RDM6300 (RFID READER R/W 125KHZ MODULE)
pins: ANT1, ANT2, D0, GND, GND1, LED, RX, TX, VCC, VCC1

## RT0402BRE0750RL
designator R?, comment 50E
Thin Film Resistors - SMD 50 ohm 0.1% 50 ppm High-Precision; Manufacturer_Name: YAGEO (PHYCOMP); Manufacturer_Part_Number: RT0402BRE0750RL; Geometry.Height: 0.35mm; Arrow Part Number: RT0402BRE0750RL; Arrow Price/Stock: *; Mouser Part Number: 603-RT0402BRE0750RL; Mouser Price/Stock: https://www.mouser.com/Search/Refine.aspx?Keyword=603-RT0402BRE0750RL; Datasheet Link: https://componentsearchengine.com/Datasheets/1/RT0402BRE0750RL.pdf
footprint RESC1005X35N
pins: 1, 2

## S2B-XH-A_LF__SN_
designator J?
XH-2.5mm Header side entry 2 way JST XH Series, Series Number S2B, 2.5mm Pitch 2 Way 1 Row Right Angle PCB Header, Solder Termination, 3A; Manufacturer_Name: JST (JAPAN SOLDERLESS TERMINALS); Manufacturer_Part_Number: S2B-XH-A(LF)(SN); Geometry.Height: 6.1mm; Arrow Part Number: S2B-XH-A(LF)(SN); Arrow Price/Stock: https://www.arrow.com/en/products/s2b-xh-a-lf-sn/jst-manufacturing; Mouser Part Number: *; Mouser Price/Stock: *; Datasheet Link: http://www.jst-mfg.com/product/pdf/eng/eXH.pdf
footprint SHDRRA2W80P0X250_1X2_740X1150X610P
pins: 1, 2

## SP0504BAJTG_ESD Diode
designator *
Part Number: SP0503BAHTG; Manufacturer: Little Fuse; Footprint Doc: SOT-143-4
pins: 1, 2, 3, 4

## Tactile switch_TH
designator *
pins: 1, 2, 3, 4

## Test Points
designator *
pins: 1

## TPS63001DRCR
designator B?
96% Buck-Boost Converter with 1.7A Current Switches, 3.3V fixed Output voltage in 3x3 QFN; Manufacturer_Name: Texas Instruments; Geometry.Height: 1mm; Manufacturer_Part_Number: TPS63001DRCR; Arrow Part Number: TPS63001DRCR; Arrow Price/Stock: https://www.arrow.com/en/products/tps63001drcr/texas-instruments; Mouser Part Number: 595-TPS63001DRCR; Mouser Price/Stock: https://www.mouser.co.uk/ProductDetail/Texas-Instruments/TPS63001DRCR?qs=QZuYiDxzHagn01UZf%2F%252B1Bw%3D%3D; Datasheet Link: http://www.ti.com/lit/gpn/tps63001
footprint SON50P300X300X100-11N-D
pins: 1 VOUT, 2 L2, 3 PGND, 4 L1, 5 VIN, 6 EN, 7 PS/SYNC, 8 VINA, 9 GND, 10 FB, 11 EP

## USB C Type connector
designator J?
Part Number: *
pins: A1 GNDA1 (power), A2 SSTXP1 (io), A3 SSTXN1 (io), A4 VBUSA1 (power), A5 CC1 (io), A6 DP1 (io), A7 DN1 (io), A8 SBU1 (io), A9 VBUSA2 (power), A10 SSRXN2 (io), A11 SSRXP2 (io), A12 GNDA2 (power), B1 GNDB1 (power), B2 SSTXP2 (io), B3 SSTXN2 (io), B4 VBUSB1 (power), B5 CC2 (io), B6 DP2 (io), B7 DN2 (io), B8 SBU2 (io), B9 VBUSB2 (power), B10 SSRXN1 (io), B11 SSRXP1 (io), B12 GNDB2 (power), G1 GND/SHIELD (power), G2 GND/SHIELD (power), G3 GND/SHIELD (power), G4 GND/SHIELD (power), S1 GND/SHIELD (power), S2 GND/SHIELD (power), S3 GND/SHIELD (power), S4 GND/SHIELD (power)

## VJ1206G106KXXTW1BC
designator C?, comment 10uF
Multilayer Ceramic Capacitors MLCC - SMD/SMT 10uF 25volts 10%; Manufacturer_Name: Vishay; Manufacturer_Part_Number: VJ1206G106KXXTW1BC; Geometry.Height: 1.7mm; Arrow Part Number: VJ1206G106KXXTW1BC; Arrow Price/Stock: *; Mouser Part Number: 77-VJ126G106KXXTW1BC; Mouser Price/Stock: https://www.mouser.co.uk/ProductDetail/Vishay-Vitramon/VJ1206G106KXXTW1BC?qs=%252BqhDFMvZazSFJ5Hhl5VYQw%3D%3D; Datasheet Link: http://www.vishay.com/docs/45200/vjhirelseries.pdf
footprint CAPC3216X170N
pins: 1, 2

## ZXRE330ASA-7
designator B?
Diodes Inc ZXRE330ASA-7, Shunt Precision Voltage Reference 3.3V, +/-0.5%, 3-Pin SOT-23; Manufacturer_Name: Diodes Inc.; Geometry.Height: 1.1mm; Manufacturer_Part_Number: ZXRE330ASA-7; Arrow Part Number: ZXRE330ASA-7; Arrow Price/Stock: https://www.arrow.com/en/products/zxre330asa-7/diodes-incorporated; Mouser Part Number: 621-ZXRE330ASA-7; Mouser Price/Stock: https://www.mouser.co.uk/ProductDetail/Diodes-Incorporated/ZXRE330ASA-7?qs=4q%2FTN4Rqj6JkCriwoAvbDA%3D%3D; Datasheet Link: https://www.diodes.com/assets/Datasheets/ZXRE330.pdf
footprint SOT96P240X110-3N
pins: 1 K, 2 A, 3 NC